# Altium footprint library WSON-8(8.0X6.0).PcbLib: 1 footprints
Each footprint in its own frame and in the unit in brackets; x right, y up, seen from the top. Pads: shape width x height; smd on the part's side, far side on the other; paste and mask are expansions set on the pad; w line width, h text height; cw(c..) or ccw(c..) is an arc to the next point about the centre after c.
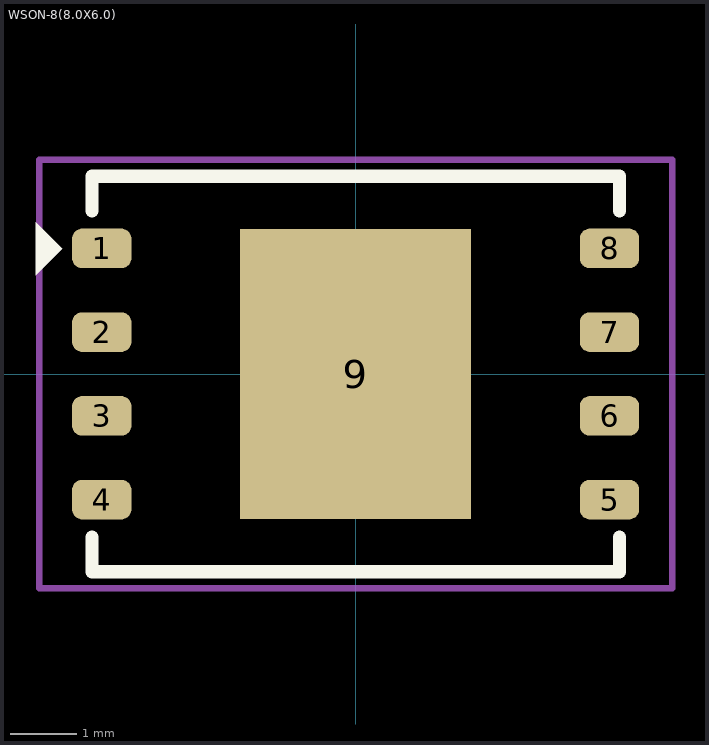
[diagram p0: the footprint, top view; thin cyan lines are the x and y axes]

## WSON-8(8.0X6.0) [mm]
pads (9):
  rrect50% 0.9x0.6 smd: 1(-3.85,1.905) 2(-3.85,0.635) 3(-3.85,-0.635) 4(-3.85,-1.905) 5(3.85,-1.905) 6(3.85,-0.635) 7(3.85,0.635) 8(3.85,1.905)
  rect 3.5x4.4 smd: 9(0,0)
Top Overlay:
  region: -4.85,1.5 -4.85,2.3 -4.45,1.9
  lines w0.2: -4,-2.475 -4,-3 4,-3 4,-2.475 ; -4,2.475 -4,3 4,3 4,2.475
Top Courtyard:
  lines w0.1: -4.8,-3.25 -4.8,3.25 4.8,3.25 4.8,-3.25 -4.8,-3.25
3D body "W25N01GVZEIG TR.STEP": height 0.8, standoff 0, extent -4,-3 4,3